# Altium schematic symbol library W25N01GVZEIR.Schlib: 1 symbol
Pins are listed as number, name and electrical type; pins without a type are passive.

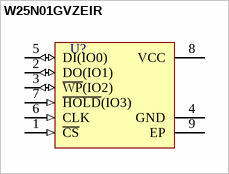
[diagram p0: symbol W25N01GVZEIR]

## W25N01GVZEIR
designator U?
Flash Memory
pins: 1 ~{CS} (in), 2 DO(IO1) (io), 3 ~{WP}(IO2) (io), 4 GND (power), 5 DI(IO0) (io), 6 CLK (in), 7 ~{HOLD}(IO3) (in), 8 VCC (power), 9 EP (power)